# Altium footprint library 1_to_5_Pin.PcbLib: 195 footprints (part 4 of 13)
Each footprint in its own frame and in the unit in brackets; x right, y up, seen from the top. Pads: shape width x height; smd on the part's side, far side on the other; paste and mask are expansions set on the pad; w line width, h text height; cw(c..) or ccw(c..) is an arc to the next point about the centre after c.
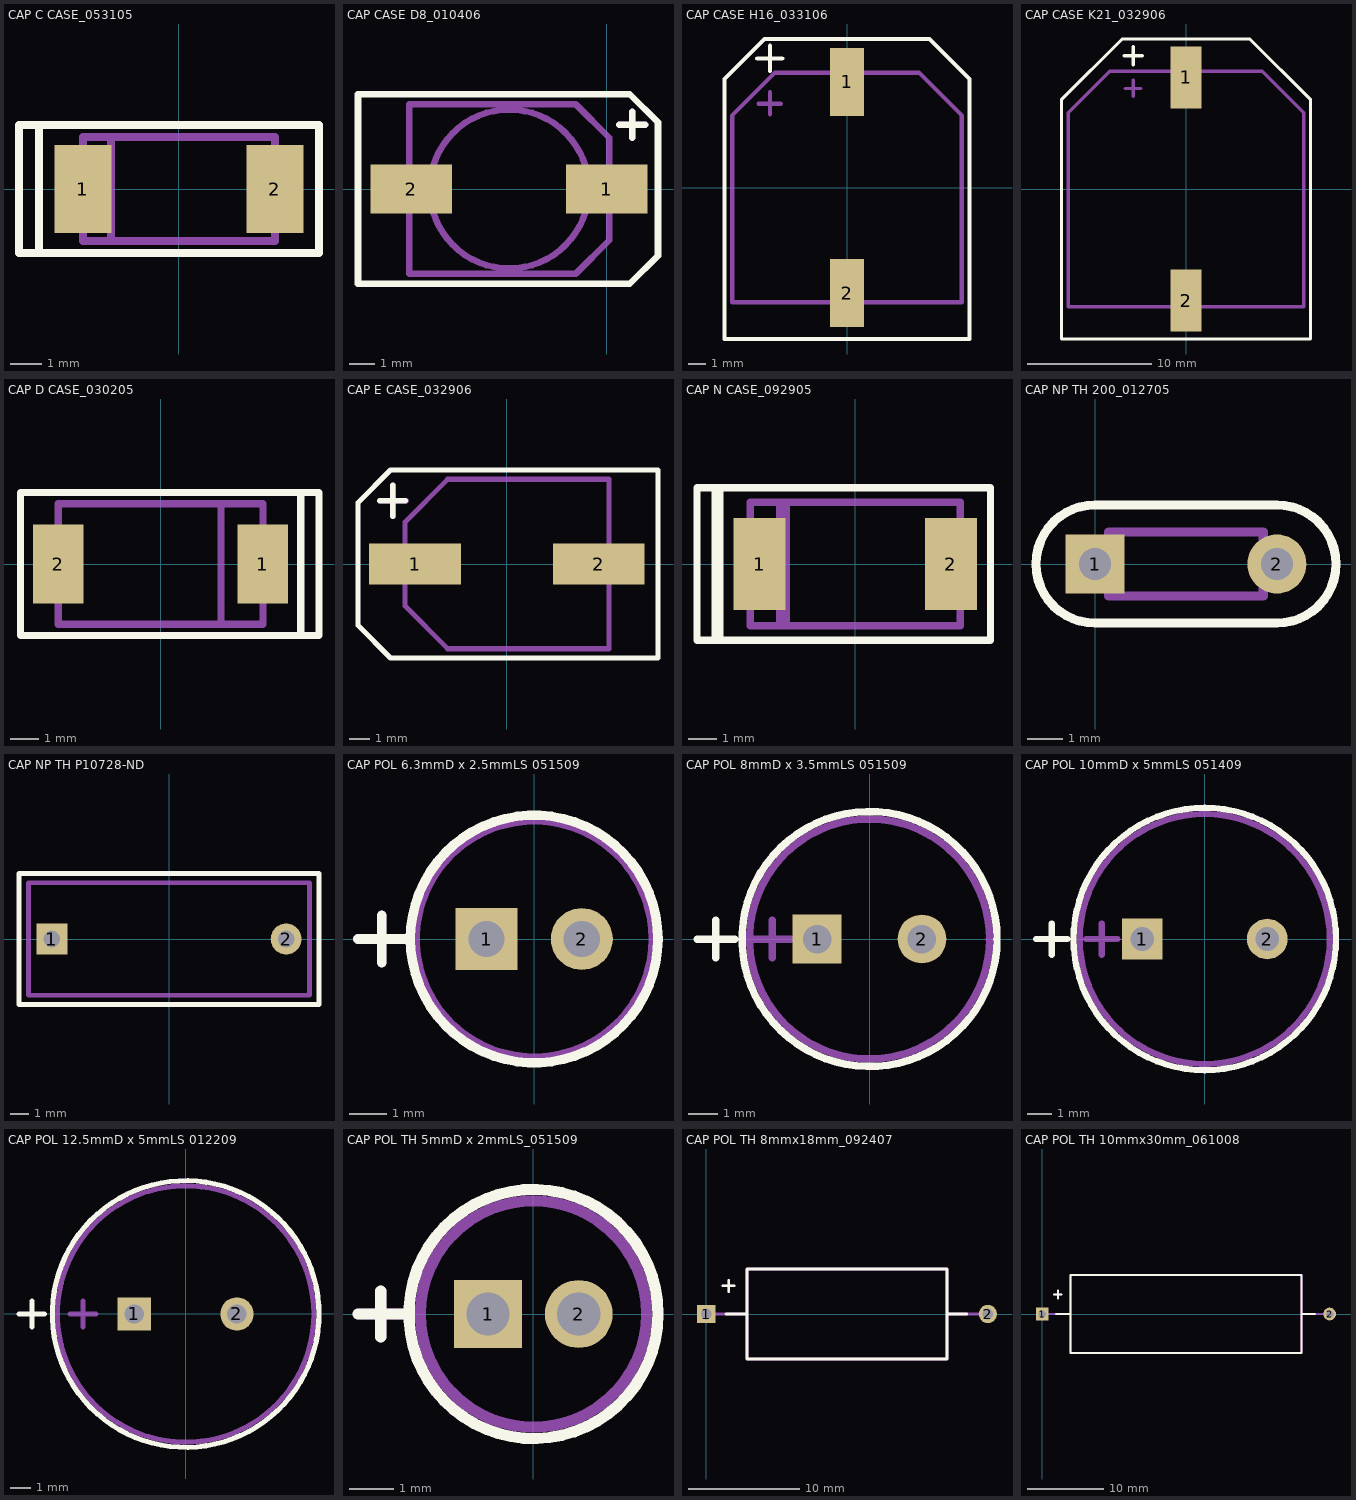
[diagram p3: the footprints below, top view; thin cyan lines are the x and y axes]

## CAP C CASE_053105 [mm] "SMT"
height 2.54
pads (2):
  rect 1.8x2.8 smd: 1(-3.048,0) 2(3.048,0)
Top Overlay:
  lines w0.254: -4.445,-2.032 4.445,-2.032 4.445,2.032 0.762,2.032 -4.445,2.032 ; -4.445,-2.032 -4.445,2.032 ; -4.445,-2.032 -5.08,-2.032 -5.08,2.032 -4.445,2.032
Assembly Outline:
  lines w0.254: -2.159,-1.651 -2.159,1.651 ; 0,1.651 3.048,1.651 ; 3.048,0 3.048,-1.651 ; 3.048,-1.651 3.048,1.651 ; 3.048,-1.651 -3.048,-1.651 -3.048,1.651 3.048,1.651
Assembly Designator:
  text ".Designator" at -1.143,-0.381 h1.02
Assembly Comment:
  text ".Comment" at -3.429,-3.175 h1.02

## CAP CASE D8_010406 [mil] "SMT"
height 300
pads (2):
  rect 125x75 smd: 1(0,0) 2(-300,0)
Top Overlay:
  lines w10: 19.05,98.42 59.05,98.42 ; 39.05,78.42 39.05,118.42 ; -381.89,-145.67 -381.89,0 -381.89,145.67 -149.61,145.67 35.43,145.67 78.74,102.36 78.74,0 78.74,-102.36 35.43,-145.67 -149.61,-145.67 -381.89,-145.67
Assembly Outline:
  circle w10: c-149.61,0 r122.05
  lines w10: -303.15,0 -303.15,129.92 ; -149.61,-129.92 -303.15,-129.92 ; -303.15,-129.92 -78.74,-129.92 -47.24,-129.92 3.94,-78.74 3.94,78.74 -47.24,129.92 -78.74,129.92 -303.15,129.92 ; -303.15,-129.92 -303.15,129.92 ; 19.05,98.42 59.05,98.42 ; 19.05,98.42 59.05,98.42 ; 19.05,98.42 59.05,98.42 ; 39.05,78.42 39.05,118.42 ; 39.05,78.42 39.05,118.42 ; 39.05,78.42 39.05,118.42

## CAP CASE H16_033106 [mm] "SMT"
height 16
pads (2):
  rect 2x4 smd: 1(0,6.2) 2(0,-6.2)
Top Overlay:
  lines w0.254: -5.275,7.575 -3.8,7.575 ; -4.525,6.85 -4.525,8.325 ; -7.2,-8.9 7.2,-8.9 7.2,0 7.2,6.375 4.85,8.725 0,8.725 -4.85,8.725 -7.2,6.375 -7.2,0 -7.2,-8.9
Assembly Outline:
  lines w0.254: -5.2,4.925 -3.9,4.925 ; -4.525,4.3 -4.525,5.6 ; -0.45,-6.75 -0.45,-7.35 0,-7.35 0.45,-7.35 0.45,-6.75 ; -0.45,6.75 -0.45,7.35 0,7.35 0.45,7.35 0.45,6.75 ; 0,-6.75 -6.75,-6.75 ; -6.75,-6.75 -6.75,2.45 -6.75,4.225 -4.225,6.75 4.225,6.75 6.75,4.225 6.75,2.45 6.75,-6.75 -6.75,-6.75
Assembly Designator:
  text ".Designator" at -1.7,-0.15 h1.02
Assembly Comment:
  text ".Comment" at -2.525,-2.175 h1.02

## CAP CASE K21_032906 [mm] "SMT"
height 21
pads (2):
  rect 2.5x5 smd: 1(0,9) 2(0,-9)
Top Overlay:
  lines w0.254: -5,10.75 -3.525,10.75 ; -4.25,10.025 -4.25,11.5 ; -10.05,-12.1 -10.05,0 -10.05,7.2 -5.15,12.1 0,12.1 5.15,12.1 10.05,7.2 10.05,0 10.05,-12.1 0,-12.1 -10.05,-12.1
Assembly Outline:
  lines w0.254: -4.925,8.1 -3.625,8.1 ; -4.25,7.475 -4.25,8.775 ; -0.6,-9.5 -0.6,-10.5 0.6,-10.5 ; -0.6,9.5 -0.6,10.5 0.6,10.5 ; 0,-10.5 0.6,-10.5 ; 0,10.5 0.6,10.5 ; 0.6,-9.5 0.6,-10.5 ; 0.6,9.5 0.6,10.5 ; -9.5,-9.5 9.5,-9.5 9.5,0 9.5,6.15 6.15,9.5 -6.15,9.5 -9.5,6.15 -9.5,4.45 -9.5,-9.5
Assembly Designator:
  text ".Designator" at -1.1,-0.275 h1.02
Assembly Comment:
  text ".Comment" at -4,-1.95 h1.02

## CAP D CASE_030205 [mm] "SMT"
height 3.048
pads (2):
  rect 1.8x2.8 smd: 1(3.65,0) 2(-3.65,0)
Top Overlay:
  lines w0.254: 5,-2.55 5.65,-2.55 5.65,2.55 5,2.55 ; 5,-2.55 -5,-2.55 -5,0 -5,2.55 5,2.55 ; 5,-2.55 5,2.55
Assembly Outline:
  lines w0.254: 0,-2.15 -3.65,-2.15 ; 2.15,2.15 2.15,-2.15 3.65,-2.15 ; 3.65,0 3.65,2.15 ; -3.65,-2.15 -3.65,2.15 3.65,2.15 ; -3.65,-2.15 3.65,-2.15 ; 3.65,-2.15 3.65,2.15
Assembly Designator:
  text ".Designator" at -1.651,-0.381 h1.02
Assembly Comment:
  text ".Comment" at -3.937,2.413 h1.02

## CAP E CASE_032906 [mm] "SMT"
height 6.2
pads (2):
  rect 4.5x2 smd: 1(-4.5,0) 2(4.5,0)
Top Overlay:
  lines w0.254: -6.235,3.1 -5.6,3.1 -4.965,3.1 ; -5.6,2.338 -5.6,3.862 ; -7.3,-3 -5.7,-4.6 7.4,-4.6 7.4,4.6 1.5,4.6 -5.7,4.6 -7.3,3 -7.3,0 -7.3,-3
Assembly Outline:
  lines w0.254: -6.2,3.1 -5.565,3.1 -4.93,3.1 ; -5.565,2.338 -5.565,3.862 ; 0,-4.15 5,-4.15 ; 5,0 5,4.15 ; 5,-4.15 5,4.15 ; 5,-4.15 -2.9,-4.15 -5,-2.05 -5,2.05 -2.9,4.15 5,4.15
Assembly Designator:
  text ".Designator" at -0.901,-0.481 h1.02
Assembly Comment:
  text ".Comment" at -4.75,-5.975 h1.02

## CAP N CASE_092905 [mm] "SMT"
height 2.8
pads (2):
  rect 1.8x3.2 smd: 1(-3.325,0) 2(3.325,0)
Top Overlay:
  lines w0.254: -4.875,2.65 -4.875,-2.65 -4.7,-2.65 ; -4.7,-2.65 -0.425,-2.65 4.7,-2.65 4.7,0.775 4.7,2.65 0.425,2.65 -4.7,2.65 ; -4.7,-2.65 -4.7,-0.775 -4.7,2.65 ; -4.7,-2.65 -5.5,-2.65 -5.5,2.65 -4.7,2.65
Assembly Outline:
  lines w0.254: -3.65,0 -3.65,2.15 ; -2.275,2.15 -2.4,2.15 -2.4,-2.15 -2.625,-2.15 -2.625,2.15 -3.65,2.15 ; -3.65,2.15 3.65,2.15 3.65,-2.15 -3.65,-2.15 -3.65,2.15
Assembly Designator:
  text ".Designator" at -1.125,-0.4 h1.02
Assembly Comment:
  text ".Comment" at -3.2,-3.9 h1.02

## CAP NP TH 200_012705 [mil] "TH"
height 250
pads (2):
  rect 65x65 hole 35: 1(0,0)
  round 65 hole 35: 2(200,0)
Top Overlay:
  lines w10: 0,-65 cw(c0,0) 0,65 200,65 cw(c200,0) 200,-65 0,-65
Assembly Outline:
  lines w10: 15,-35 185,-35 185,35 15,35 15,0 15,-35
Assembly Designator:
  text ".Designator" at 50,-20 h40
Assembly Comment:
  text ".Comment" at -20,-90 h40

## CAP NP TH P10728-ND [mil] "TH"
height 511.81
pads (2):
  rect 65x65 hole 35: 1(-246.06,0)
  round 65 hole 35: 2(246.06,0)
Top Overlay:
  lines w10: -314.96,-137.8 -314.96,0 -314.96,137.8 243.11,137.8 314.96,137.8 314.96,0 314.96,-137.8 -243.11,-137.8 -314.96,-137.8
Assembly Outline:
  lines w10: -295.28,-118.11 -295.28,0 -295.28,118.11 0,118.11 295.28,118.11 295.28,0 295.28,-118.11 0,-118.11 -295.28,-118.11
Assembly Designator:
  text ".Designator" at -71.85,-13.78 h40
Assembly Comment:
  text ".Comment" at -195.87,-84.65 h40

## CAP POL 6.3mmD x 2.5mmLS 051509 [mil] "TH"
height 455
pads (2):
  rect 65x65 hole 38: 1(-50,0)
  round 65 hole 38: 2(50,0)
Top Overlay:
  circle w10: c0,0 r130
  lines w10: -185,0 -135,0 ; -160,-25 -160,25
Assembly Outline:
  circle w10: c0,0 r125
  lines w10: -185,0 -135,0 ; -160,-25 -160,25
Assembly Designator:
  text ".Designator" at -60,-15 h40
Assembly Comment:
  text ".Comment" at -105,-90 h40

## CAP POL 8mmD x 3.5mmLS 051509 [mil] "TH"
height 455
pads (2):
  rect 65x65 hole 38: 1(-70,0)
  round 65 hole 38: 2(70,0)
Top Overlay:
  circle w10: c0,0 r170
  lines w10: -230,0 -180,0 ; -205,-25 -205,25
Assembly Outline:
  circle w10: c0,0 r160
  lines w10: -155,0 -105,0 ; -130,-25 -130,25
Assembly Designator:
  text ".Designator" at -60,-15 h40
Assembly Comment:
  text ".Comment" at -105,-90 h40

## CAP POL 10mmD x 5mmLS 051409 [mil] "TH"
height 790
pads (2):
  rect 65x65 hole 38: 1(-100,0)
  round 65 hole 38: 2(100,0)
Top Overlay:
  circle w10: c0,0 r210
  lines w10: -270,0 -220,0 ; -245,-25 -245,25
Assembly Outline:
  circle w10: c0,0 r200
  lines w10: -190,0 -140,0 ; -165,-25 -165,25
Assembly Designator:
  text ".Designator" at -60,-15 h40
Assembly Comment:
  text ".Comment" at -160,-90 h40

## CAP POL 12.5mmD x 5mmLS 012209 [mil] "TH"
height 780
pads (2):
  rect 65x65 hole 38: 1(-100,0)
  round 65 hole 38: 2(100,0)
Top Overlay:
  circle w10: c0,0 r260
  lines w10: -325,0 -275,0 ; -300,-25 -300,25
Assembly Outline:
  circle w10: c0,0 r250
  lines w10: -225,0 -175,0 ; -200,-25 -200,25
Assembly Designator:
  text ".Designator" at -60,-15 h40
Assembly Comment:
  text ".Comment" at -210,-100 h40

## CAP POL TH 5mmD x 2mmLS_051509 [mil] "TH"
height 45
pads (2):
  rect 60x60 hole 38: 1(-40,0)
  round 60 hole 38: 2(40,0)
Top Overlay:
  circle w10: c0,0 r110
  lines w10: -155,0 -115,0 ; -135,-20 -135,20
Assembly Outline:
  circle w10: c0,0 r100
  lines w10: -155,0 -115,0 ; -135,-20 -135,20
Assembly Designator:
  text ".Designator" at -50,-20 h40
Assembly Comment:
  text ".Comment" at -100,-155 h40

## CAP POL TH 8mmx18mm_092407 [mil] "TH"
height 315
pads (2):
  rect 65x65 hole 38: 1(0,0)
  round 65 hole 38: 2(1000,0)
Top Overlay:
  lines w10: 60,100 100,100 ; 70,0 145,0 ; 80,80 80,120 ; 855,0 925,0 ; 145,-160 855,-160 855,160 145,160 145,-160
Assembly Outline:
  lines w10: 0,0 145,0 ; 60,100 100,100 ; 80,80 80,120 ; 855,0 1000,0 ; 145,-160 855,-160 855,160 145,160 145,-160
Assembly Designator:
  text ".Designator" at 330,-5 h40
Assembly Comment:
  text ".Comment" at 135,-230 h40

## CAP POL TH 10mmx30mm_061008 [mil] "TH"
height 315
pads (2):
  rect 65x65 hole 38: 1(0,0)
  round 65 hole 38: 2(1480,0)
Top Overlay:
  lines w10: 60,100 100,100 ; 70,0 145,0 ; 80,80 80,120 ; 1335,0 1405,0 ; 145,-200 145,200 1335,200 1335,-200 145,-200
Assembly Outline:
  lines w10: 0,0 145,0 ; 60,100 100,100 ; 80,80 80,120 ; 1335,0 1480,0 ; 145,-200 145,200 1335,200 1335,-200 145,-200
Assembly Designator:
  text ".Designator" at 453,-7 h40
Assembly Comment:
  text ".Comment" at 191,-169 h40